# EAGLE library part DIL8 (library guitar-pedals)
Dual In Line / Socket
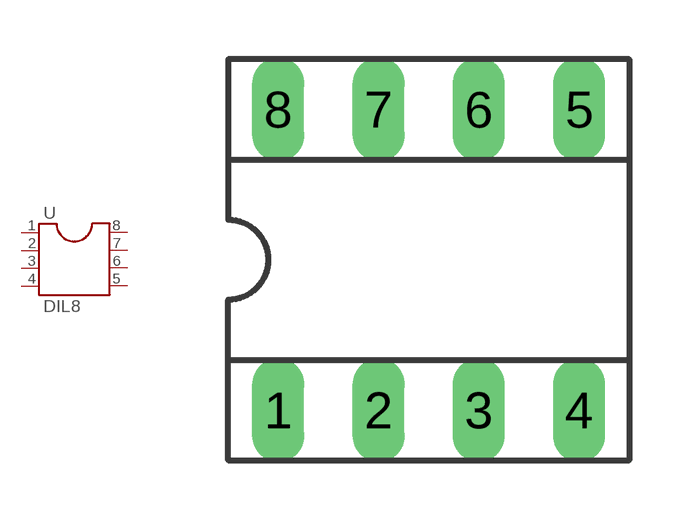
[diagram p0: symbol with the pads of SOCKET-08; footprint SOCKET-08]

Designator prefix U

## DIL8S  [SOCKET-08]
1  1  pas
2  2  pas
3  3  pas
4  4  pas
5  5  pas
6  6  pas
7  7  pas
8  8  pas

## Footprint SOCKET-08 (pad centres in mm)
Dual In Line Socket
drill 0.813 long: 1 -3.81,-3.81; 2 -1.27,-3.81; 3 1.27,-3.81; 4 3.81,-3.81; 5 3.81,3.81; 6 1.27,3.81; 7 -1.27,3.81; 8 -3.81,3.81